# EAGLE library part COCO3-CARTRIDGE-PLUG (library CC2-BufferPack-V1R0-21-May-2019)
CoCo 3 Program Pak Cartridge Plug - http://www.GIMEchip.com/ Tandy Radio Shack TRS-80 Color Computer 3 Program Pak Cartridge Plug (Edge-Card) E.A.G.L.E. Library Part created by John Eric Turner & His Father - sales@gimechip.com <mailto:sales@gimechip.com?subject=Tandy Radio Shack TRS- 80 Color Computer 3 Program Pak Cartridge Plug (Edge-Card) E.A.G.L.E. Library Part> 40-Pin Edge-Card sharing the same pinout as the Program Pak Cartridge Edge-Card Connector. This library part has been designed to provide a 40-pin cartridge plug connector matching the CoCo's Edge-Card connector (Cartridge Slot). This library part is also useful with the Dragon and other CoCo clones. It is important to note that the CoCo 2 & 3 only provide +5V at the cartridge connector. The CoCo 1 provides +5V AND +/-12V at the cartridge connector. The Dragon provides only +5V and +12V at the cartridge connector. The table below lists all similarities and differences between these machines, relevant to the cartridge slot: PIN # TRS-80 "CoCo 1" Function Tano/Dragon Data "Dragon 32/64" Function TRS-80 "CoCo 2 & 3" Function 1 -12V +12V NC 2 +12V +12V NC 3 HALT* HALT* HALT* 4 NMI* NMI* NMI* 5 RESET* RESET* RESET* 6 E E E 7 Q Q Q 8 CART* CART* CART* 9 +5V +5V +5V 10 D0 D0 D0 11 D1 D1 D1 12 D2 D2 D2 13 D3 D3 D3 14 D4 D4 D4 15 D5 D5 D5 16 D6 D6 D6 17 D7 D7 D7 18 R/W* R/W* R/W* 19 A0 A0 A0 20 A1 A1 A1 21 A2 A2 A2 22 A3 A3 A3 23 A4 A4 A4 24 A5 A5 A5 25 A6 A6 A6 26 A7 A7 A7 27 A8 A8 A8 28 A9 A9 A9 29 A10 A10 A10 30 A11 A11 A11 31 A12 A12 A12 32 CTS* CSEL* CTS* 33 GND GND GND 34 GND GND GND 35 SND SND SND 36 SCS* P2* SCS* 37 A13 A13 A13 38 A14 A14 A14 39 A15 A15 A15 40 SLENB* DSD* SLENB*
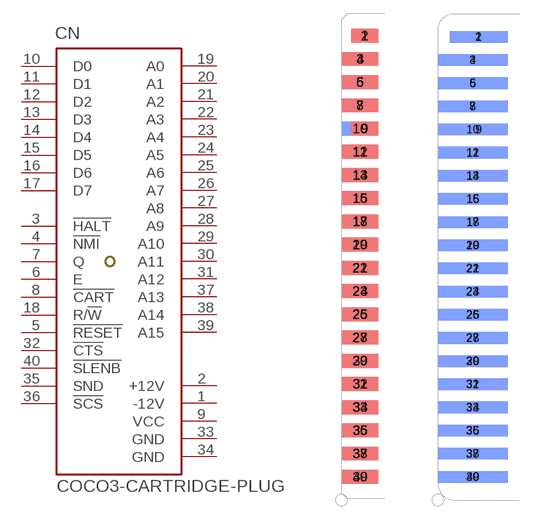
[diagram p0: symbol with the pads of EDGE-CARD-PLUG-2X20-100-SHORT; footprints EDGE-CARD-PLUG-2X20-100-SHORT, EDGE-CARD-PLUG-2X20-100-MEDIUM]

Designator prefix CN

## COCO3-CARTRIDGE-PLUG-SHORT  [EDGE-CARD-PLUG-2X20-100-SHORT]
1  -12V  pwr
2  +12V  pwr
3  !HALT
4  !NMI
5  !RESET
6  E  out
7  Q  out
8  !CART  in
9  VCC  pwr
10  D0
11  D1
12  D2
13  D3
14  D4
15  D5
16  D6
17  D7
18  R/!W
19  A0  out
20  A1  out
21  A2  out
22  A3  out
23  A4  pas
24  A5  out
25  A6  out
26  A7  out
27  A8  out
28  A9  out
29  A10  out
30  A11  out
31  A12  out
32  !CTS  out
33  GND  pwr
34  GND  pwr
35  SND  in
36  !SCS  out
37  A13  out
38  A14  out
39  A15  out
40  !SLENB  in

## COCO3-CARTRIDGE-PLUG-MEDIUM  [EDGE-CARD-PLUG-2X20-100-MEDIUM]
Pads as for EDGE-CARD-PLUG-2X20-100-SHORT

## COCO3-CARTRIDGE-PLUG-LONG  [EDGE-CARD-PLUG-2X20-100-LONG]
Pads as for EDGE-CARD-PLUG-2X20-100-SHORT

## COCO3-CARTRIDGE-PLUG-LD  [EDGE-CARD-PLUG-2X20-100-LONG-DIMENSION]
Pads as for EDGE-CARD-PLUG-2X20-100-SHORT

## COCO3-CARTRIDGE-PLUG-MD  [EDGE-CARD-PLUG-2X20-100-MEDIUM-DIMENSION]
Pads as for EDGE-CARD-PLUG-2X20-100-SHORT

## COCO3-CARTRIDGE-PLUG-SD  [EDGE-CARD-PLUG-2X20-100-SHORT-DIMENSION]
Pads as for EDGE-CARD-PLUG-2X20-100-SHORT

## Footprint EDGE-CARD-PLUG-2X20-100-SHORT (pad centres in mm)
CoCo 3 Program Pak Cartridge Plug SHORT - http://www.RetroZilla.org/ Tandy Radio Shack TRS-80 Color Computer 3 Program Pak Cartridge Plug (Edge-Card) SHORT Copyright ©12 Jan 2013, by: John Eric Turner and his Father. http://www.GIMEchip.com/ sales@GIMEchip.com Licensed to: http://www.RetroZilla.org/ sales@RetroZilla.org RetroZilla.org, LLC component footprints for EAGLE v5.xx. The footprints contained within this library were created by GIMEchip.com and have been licensed to RetroZilla.org, LLC. You may use these footprints in your own projects, however, please take note that we CANNOT guarantee the accuracy of these footprints (nor any part of this library). We make NO guarantees that the footprints or schematic symbols in this library are flawless, and we make no promises of fitness for production, prototyping or any other purpose. These libraries are provided for informational purposes only, and are used at your own discretion. By downloading these libraries, you agree that we cannot be held responsible for faulty PCBs. You should always check the footprints with a 1:1 printout. Neither GIMEchip.com, RetroZilla.org, LLC nor anyone affiliated with same shall be held responsible for any outcome resulting from the usage of these files. Should any errors be found, pleease contact us at one of the above email addresses.
smd 2.921 x 1.524: 1 2.54,50.8; 9 2.54,40.64
smd 2.921 x 1.524 bottom: 2 2.54,50.8
smd 3.937 x 1.524: 3 2.032,48.26; 5 2.032,45.72; 7 2.032,43.18; 11 2.032,38.1; 13 2.032,35.56; 15 2.032,33.02; 17 2.032,30.48; 19 2.032,27.94; 21 2.032,25.4; 23 2.032,22.86; 25 2.032,20.32; 27 2.032,17.78; 29 2.032,15.24; 31 2.032,12.7; 33 2.032,10.16; 35 2.032,7.62; 37 2.032,5.08; 39 2.032,2.54
smd 3.937 x 1.524 bottom: 4 2.032,48.26; 6 2.032,45.72; 8 2.032,43.18; 10 2.032,40.64; 12 2.032,38.1; 14 2.032,35.56; 16 2.032,33.02; 18 2.032,30.48; 20 2.032,27.94; 22 2.032,25.4; 24 2.032,22.86; 26 2.032,20.32; 28 2.032,17.78; 30 2.032,15.24; 32 2.032,12.7; 34 2.032,10.16; 36 2.032,7.62; 38 2.032,5.08; 40 2.032,2.54

## Footprint EDGE-CARD-PLUG-2X20-100-MEDIUM (pad centres in mm)
CoCo 3 Program Pak Cartridge Plug MEDIUM - http://www.RetroZilla.org/ Tandy Radio Shack TRS-80 Color Computer 3 Program Pak Cartridge Plug (Edge-Card) MEDIUM Copyright ©12 Jan 2013, by: John Eric Turner and his Father. http://www.GIMEchip.com/ sales@GIMEchip.com Licensed to: http://www.RetroZilla.org/ sales@RetroZilla.org RetroZilla.org, LLC component footprints for EAGLE v5.xx. The footprints contained within this library were created by GIMEchip.com and have been licensed to RetroZilla.org, LLC. You may use these footprints in your own projects, however, please take note that we CANNOT guarantee the accuracy of these footprints (nor any part of this library). We make NO guarantees that the footprints or schematic symbols in this library are flawless, and we make no promises of fitness for production, prototyping or any other purpose. These libraries are provided for informational purposes only, and are used at your own discretion. By downloading these libraries, you agree that we cannot be held responsible for faulty PCBs. You should always check the footprints with a 1:1 printout. Neither GIMEchip.com, RetroZilla.org, LLC nor anyone affiliated with same shall be held responsible for any outcome resulting from the usage of these files. Should any errors be found, pleease contact us at one of the above email addresses.
smd 6.35 x 1.27: 1 4.445,50.8; 9 4.445,40.64
smd 6.35 x 1.27 bottom: 2 4.445,50.8
smd 7.62 x 1.27: 3 3.81,48.26; 5 3.81,45.72; 7 3.81,43.18; 11 3.81,38.1; 13 3.81,35.56; 15 3.81,33.02; 17 3.81,30.48; 19 3.81,27.94; 21 3.81,25.4; 23 3.81,22.86; 25 3.81,20.32; 27 3.81,17.78; 29 3.81,15.24; 31 3.81,12.7; 33 3.81,10.16; 35 3.81,7.62; 37 3.81,5.08; 39 3.81,2.54
smd 7.62 x 1.27 bottom: 4 3.81,48.26; 6 3.81,45.72; 8 3.81,43.18; 10 3.81,40.64; 12 3.81,38.1; 14 3.81,35.56; 16 3.81,33.02; 18 3.81,30.48; 20 3.81,27.94; 22 3.81,25.4; 24 3.81,22.86; 26 3.81,20.32; 28 3.81,17.78; 30 3.81,15.24; 32 3.81,12.7; 34 3.81,10.16; 36 3.81,7.62; 38 3.81,5.08; 40 3.81,2.54

## Footprint EDGE-CARD-PLUG-2X20-100-LONG (pad centres in mm)
CoCo 3 Program Pak Cartridge Plug LONG - http://www.RetroZilla.org/ Tandy Radio Shack TRS-80 Color Computer 3 Program Pak Cartridge Plug (Edge-Card) LONG Copyright ©12 Jan 2013, by: John Eric Turner and his Father. http://www.GIMEchip.com/ sales@GIMEchip.com Licensed to: http://www.RetroZilla.org/ sales@RetroZilla.org RetroZilla.org, LLC component footprints for EAGLE v5.xx. The footprints contained within this library were created by GIMEchip.com and have been licensed to RetroZilla.org, LLC. You may use these footprints in your own projects, however, please take note that we CANNOT guarantee the accuracy of these footprints (nor any part of this library). We make NO guarantees that the footprints or schematic symbols in this library are flawless, and we make no promises of fitness for production, prototyping or any other purpose. These libraries are provided for informational purposes only, and are used at your own discretion. By downloading these libraries, you agree that we cannot be held responsible for faulty PCBs. You should always check the footprints with a 1:1 printout. Neither GIMEchip.com, RetroZilla.org, LLC nor anyone affiliated with same shall be held responsible for any outcome resulting from the usage of these files. Should any errors be found, pleease contact us at one of the above email addresses.
smd 11.938 x 1.27: 1 7.239,50.8; 9 7.239,40.64
smd 11.938 x 1.27 bottom: 2 7.239,50.8
smd 13.107 x 1.27: 3 6.655,48.26; 5 6.655,45.72; 7 6.655,43.18; 11 6.655,38.1; 13 6.655,35.56; 15 6.655,33.02; 17 6.655,30.48; 19 6.655,27.94; 21 6.655,25.4; 23 6.655,22.86; 25 6.655,20.32; 27 6.655,17.78; 29 6.655,15.24; 31 6.655,12.7; 33 6.655,10.16; 35 6.655,7.62; 37 6.655,5.08; 39 6.655,2.54
smd 13.107 x 1.27 bottom: 4 6.655,48.26; 6 6.655,45.72; 8 6.655,43.18; 10 6.655,40.64; 12 6.655,38.1; 14 6.655,35.56; 16 6.655,33.02; 18 6.655,30.48; 20 6.655,27.94; 22 6.655,25.4; 24 6.655,22.86; 26 6.655,20.32; 28 6.655,17.78; 30 6.655,15.24; 32 6.655,12.7; 34 6.655,10.16; 36 6.655,7.62; 38 6.655,5.08; 40 6.655,2.54

## Footprint EDGE-CARD-PLUG-2X20-100-LONG-DIMENSION (pad centres in mm)
smd 11.938 x 1.27: 1 7.239,50.8; 9 7.239,40.64
smd 11.938 x 1.27 bottom: 2 7.239,50.8
smd 13.107 x 1.27: 3 6.655,48.26; 5 6.655,45.72; 7 6.655,43.18; 11 6.655,38.1; 13 6.655,35.56; 15 6.655,33.02; 17 6.655,30.48; 19 6.655,27.94; 21 6.655,25.4; 23 6.655,22.86; 25 6.655,20.32; 27 6.655,17.78; 29 6.655,15.24; 31 6.655,12.7; 33 6.655,10.16; 35 6.655,7.62; 37 6.655,5.08; 39 6.655,2.54
smd 13.107 x 1.27 bottom: 4 6.655,48.26; 6 6.655,45.72; 8 6.655,43.18; 10 6.655,40.64; 12 6.655,38.1; 14 6.655,35.56; 16 6.655,33.02; 18 6.655,30.48; 20 6.655,27.94; 22 6.655,25.4; 24 6.655,22.86; 26 6.655,20.32; 28 6.655,17.78; 30 6.655,15.24; 32 6.655,12.7; 34 6.655,10.16; 36 6.655,7.62; 38 6.655,5.08; 40 6.655,2.54

## Footprint EDGE-CARD-PLUG-2X20-100-MEDIUM-DIMENSION (pad centres in mm)
smd 6.35 x 1.27: 1 4.445,50.8; 9 4.445,40.64
smd 6.35 x 1.27 bottom: 2 4.445,50.8
smd 7.62 x 1.27: 3 3.81,48.26; 5 3.81,45.72; 7 3.81,43.18; 11 3.81,38.1; 13 3.81,35.56; 15 3.81,33.02; 17 3.81,30.48; 19 3.81,27.94; 21 3.81,25.4; 23 3.81,22.86; 25 3.81,20.32; 27 3.81,17.78; 29 3.81,15.24; 31 3.81,12.7; 33 3.81,10.16; 35 3.81,7.62; 37 3.81,5.08; 39 3.81,2.54
smd 7.62 x 1.27 bottom: 4 3.81,48.26; 6 3.81,45.72; 8 3.81,43.18; 10 3.81,40.64; 12 3.81,38.1; 14 3.81,35.56; 16 3.81,33.02; 18 3.81,30.48; 20 3.81,27.94; 22 3.81,25.4; 24 3.81,22.86; 26 3.81,20.32; 28 3.81,17.78; 30 3.81,15.24; 32 3.81,12.7; 34 3.81,10.16; 36 3.81,7.62; 38 3.81,5.08; 40 3.81,2.54

## Footprint EDGE-CARD-PLUG-2X20-100-SHORT-DIMENSION (pad centres in mm)
smd 2.921 x 1.524: 1 2.54,50.8; 9 2.54,40.64
smd 2.921 x 1.524 bottom: 2 2.54,50.8
smd 3.937 x 1.524: 3 2.032,48.26; 5 2.032,45.72; 7 2.032,43.18; 11 2.032,38.1; 13 2.032,35.56; 15 2.032,33.02; 17 2.032,30.48; 19 2.032,27.94; 21 2.032,25.4; 23 2.032,22.86; 25 2.032,20.32; 27 2.032,17.78; 29 2.032,15.24; 31 2.032,12.7; 33 2.032,10.16; 35 2.032,7.62; 37 2.032,5.08; 39 2.032,2.54
smd 3.937 x 1.524 bottom: 4 2.032,48.26; 6 2.032,45.72; 8 2.032,43.18; 10 2.032,40.64; 12 2.032,38.1; 14 2.032,35.56; 16 2.032,33.02; 18 2.032,30.48; 20 2.032,27.94; 22 2.032,25.4; 24 2.032,22.86; 26 2.032,20.32; 28 2.032,17.78; 30 2.032,15.24; 32 2.032,12.7; 34 2.032,10.16; 36 2.032,7.62; 38 2.032,5.08; 40 2.032,2.54